# EAGLE library part MINI8X8 (library jasons_stuff)
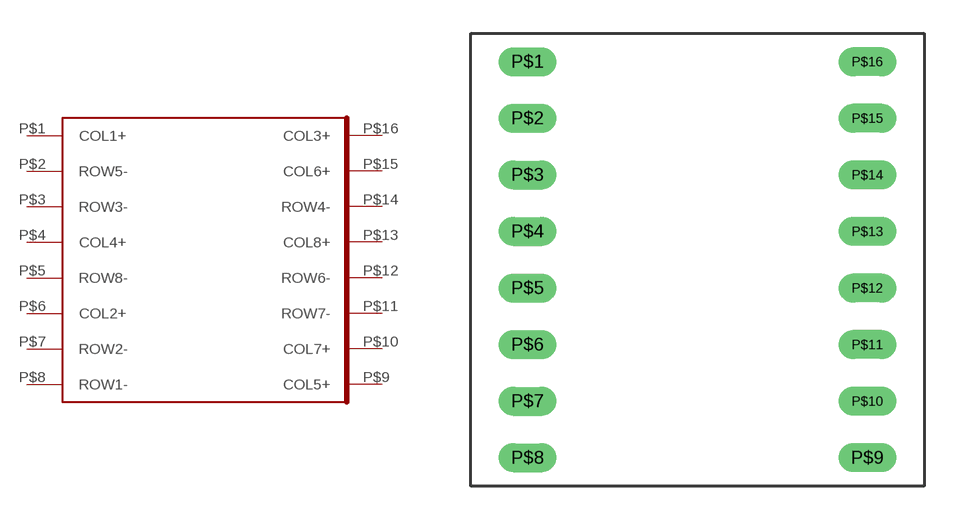
[diagram p30: symbol with the pads of MINI8X8; footprint MINI8X8]

Designator prefix -

## MINI8X8  [MINI8X8]
P$1  COL1+
P$2  ROW5-
P$3  ROW3-
P$4  COL4+
P$5  ROW8-
P$6  COL2+
P$7  ROW2-
P$8  ROW1-
P$9  COL5+
P$10  COL7+
P$11  ROW7-
P$12  ROW6-
P$13  COL8+
P$14  ROW4-
P$15  COL6+
P$16  COL3+

## Footprint MINI8X8 (pad centres in mm)
drill 0.8 long: P$1 -7.62,8.89; P$2 -7.62,6.35; P$3 -7.62,3.81; P$4 -7.62,1.27; P$5 -7.62,-1.27; P$6 -7.62,-3.81; P$7 -7.62,-6.35; P$8 -7.62,-8.89; P$9 7.62,-8.89; P$10 7.62,-6.35; P$11 7.62,-3.81; P$12 7.62,-1.27; P$13 7.62,1.27; P$14 7.62,3.81; P$15 7.62,6.35; P$16 7.62,8.89